# Altium footprint library Chip_Passives.PcbLib: 6 footprints
Each footprint in its own frame and in the unit in brackets; x right, y up, seen from the top. Pads: shape width x height; smd on the part's side, far side on the other; paste and mask are expansions set on the pad; w line width, h text height; cw(c..) or ccw(c..) is an arc to the next point about the centre after c.
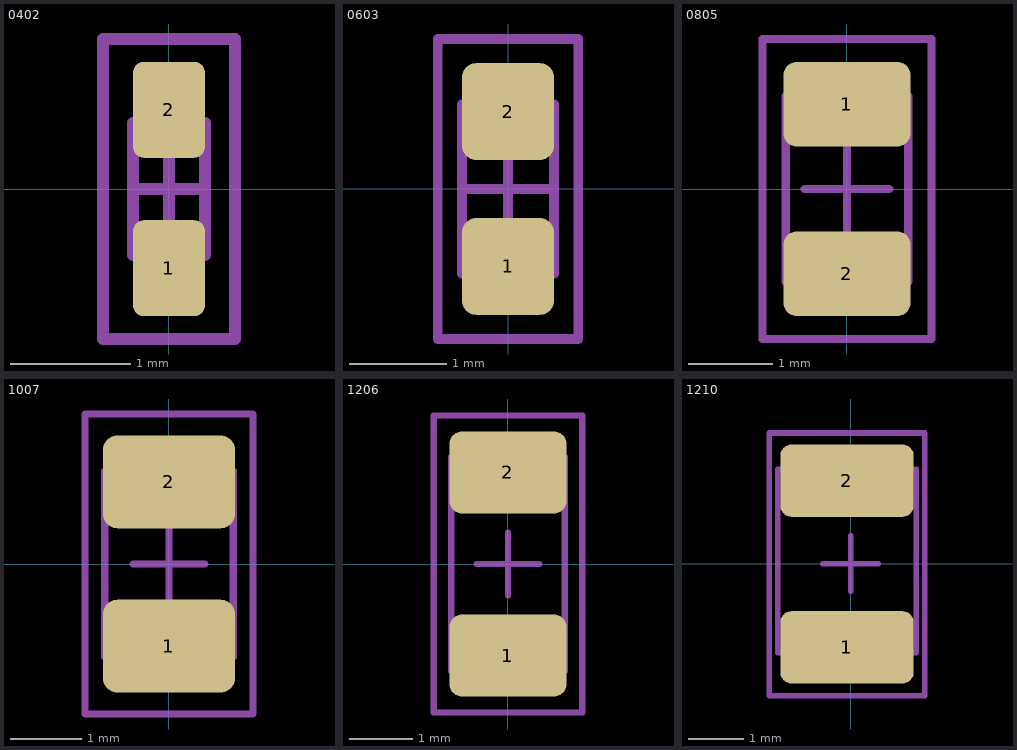
[diagram p0: the footprints below, top view; thin cyan lines are the x and y axes]

## 0402 [mm] "Chip Capacitor, 2-Leads, Body 1.0x0.5mm, IPC Medium Density"
height 0.5
pads (2):
  rrect30% 0.6x0.8 smd paste-0.025: 1(0,-0.66) 2(0,0.66)
Mechanical 13:
  lines w0.1: -0.3,-0.55 -0.3,0.55 0.3,0.55 0.3,-0.55 -0.3,-0.55
Mechanical 15:
  lines w0.1: -0.3,0 0.3,0 ; 0,-0.3 0,0.3 ; -0.55,-1.25 -0.55,1.25 0.55,1.25 0.55,-1.25 -0.55,-1.25
Assembly:
  lines w0.1: -0.55,-1.25 0.55,-1.25 0.55,1.25 -0.55,1.25 -0.55,-1.25
  text ".Designator" at 0.1,-0.8 h0.4
3D body: height 0.5, standoff 0, extent -0.3,-0.55 0.3,0.55

## 0603 [mm] "Chip Capacitor, 2-Leads, Body 1.6x0.8mm, IPC Medium Density"
height 0.65
pads (2):
  rrect30% 0.95x1 smd paste-2.515: 1(0,-0.8) 2(0,0.8)
Top Paste:
  region: -0.354,1.272 0.357,1.272 0.432,1.197 0.432,0.406 0.381,0.356 0,0.55 -0.381,0.356 -0.432,0.406 -0.432,1.194
  region: 0.354,-1.272 -0.357,-1.272 -0.432,-1.197 -0.432,-0.406 -0.381,-0.356 0,-0.55 0.381,-0.356 0.432,-0.406 0.432,-1.194
Mechanical 13:
  lines w0.1: -0.475,-0.875 -0.475,0.875 0.475,0.875 0.475,-0.875 -0.475,-0.875
Mechanical 15:
  lines w0.1: -0.475,0 0.475,0 ; 0,-0.475 0,0.475 ; -0.725,-1.55 -0.725,1.55 0.725,1.55 0.725,-1.55 -0.725,-1.55
Assembly:
  lines w0.1: -0.725,-1.55 0.725,-1.55 0.725,1.55 -0.725,1.55 -0.725,-1.55
  text ".Designator" at 0.1,-1.3 h0.6
3D body: height 0.65, standoff 0, extent -0.475,-0.875 0.475,0.875

## 0805 [mm] "Chip Capacitor, 2-Leads, Body 2.0x1.3mm, IPC Medium Density"
height 0.8
pads (2):
  rrect30% 1.5x1 smd paste-2.515: 1(0,1.002) 2(0,-1.002)
Top Paste:
  region: -0.7,0.65 -0.7,1.35 -0.6,1.45 0.6,1.45 0.7,1.35 0.7,0.65 0.6,0.55 0,0.8 -0.6,0.55
  region: 0.7,-0.65 0.7,-1.35 0.6,-1.45 -0.6,-1.45 -0.7,-1.35 -0.7,-0.65 -0.6,-0.55 0,-0.8 0.6,-0.55
Mechanical 13:
  lines w0.1: -0.725,-1.1 0.725,-1.1 0.725,1.1 -0.725,1.1 -0.725,-1.1
Mechanical 15:
  lines w0.1: -0.5,0 0.5,0 ; 0,-0.5 0,0.5 ; -1,-1.775 1,-1.775 1,1.775 -1,1.775 -1,-1.775
Assembly:
  lines w0.1: -1,-1.775 -1,1.775 1,1.775 1,-1.775 -1,-1.775
  text ".Designator" at 0.2,-1.6 h0.9
3D body: height 0.8, standoff 0, extent -0.725,-1.1 0.725,1.1

## 1007 [mm] "Chip Capacitor, 2-Leads, Body 2.5x1.8mm, IPC Medium Density"
height 1
pads (2):
  rrect30% 1.85x1.3 smd paste-2.515: 1(0,-1.15) 2(0,1.15)
Top Paste:
  region: -0.875,0.7 -0.875,1.6 -0.725,1.75 0.725,1.75 0.875,1.6 0.875,0.7 0.75,0.575 0,0.875 -0.75,0.575
  region: 0.875,-0.7 0.875,-1.6 0.725,-1.75 -0.725,-1.75 -0.875,-1.6 -0.875,-0.7 -0.75,-0.575 0,-0.875 0.75,-0.575
Mechanical 13:
  lines w0.1: -0.9,-1.3 0.9,-1.3 0.9,1.3 -0.9,1.3 -0.9,-1.3
Mechanical 15:
  lines w0.1: -0.5,0 0.5,0 ; 0,-0.5 0,0.5 ; -1.175,-2.1 1.175,-2.1 1.175,2.1 -1.175,2.1 -1.175,-2.1
Assembly:
  lines w0.1: -1.175,-2.1 -1.175,2.1 1.175,2.1 1.175,-2.1 -1.175,-2.1
  text ".Designator" at 0.2,-1.6 h0.9
3D body: height 1.8, standoff 0, extent -0.9,-1.3 0.9,1.3

## 1206 [mm] "Chip Capacitor, 2-Leads, Body 3.2x1.6mm, IPC Medium Density"
height 1
pads (2):
  rrect30% 1.85x1.3 smd paste-2.515: 1(0,-1.45) 2(0,1.45)
Top Paste:
  region: -0.875,0.975 -0.875,1.9 -0.725,2.05 0.725,2.05 0.875,1.9 0.875,0.975 0.75,0.85 0,1.175 -0.75,0.85
  region: 0.875,-0.975 0.875,-1.9 0.725,-2.05 -0.725,-2.05 -0.875,-1.9 -0.875,-0.975 -0.75,-0.85 0,-1.175 0.75,-0.85
Mechanical 13:
  lines w0.1: -0.9,-1.7 -0.9,1.7 0.9,1.7 0.9,-1.7 -0.9,-1.7
Mechanical 15:
  lines w0.1: -0.5,0 0.5,0 ; 0,-0.5 0,0.5 ; -1.175,-2.35 -1.175,2.35 1.175,2.35 1.175,-2.35 -1.175,-2.35
Assembly:
  lines w0.1: -1.175,-2.35 1.175,-2.35 1.175,2.35 -1.175,2.35 -1.175,-2.35
  text ".Designator" at 0.3,-2.1 h1.1
3D body: height 1, standoff 0, extent -0.9,-1.7 0.9,1.7

## 1210 [mm]
height 0.55
pads (2):
  rrect30% 2.4x1.3 smd paste-0.04: 1(-0.064,-1.508) 2(-0.064,1.492)
Mechanical 13:
  lines w0.1: -1.314,-1.608 -1.314,1.7 1.186,1.7 1.186,-1.608 -1.314,-1.608
Mechanical 15:
  lines w0.1: -0.5,0 0.5,0 ; 0,-0.5 0,0.5 ; -1.464,-2.383 -1.464,2.35 1.336,2.35 1.336,-2.383 -1.464,-2.383
Assembly:
  lines w0.1: -1.464,-2.383 1.336,-2.383 1.336,2.35 -1.464,2.35 -1.464,-2.383
  text ".Designator" at 0.2,-1.9 h0.9
3D body: height 1, standoff 0, extent -1.314,-1.558 1.186,1.742